# EAGLE library part DSPIC30F2010 (library microchip-dspic)
dsPIC Motion Controller DSC
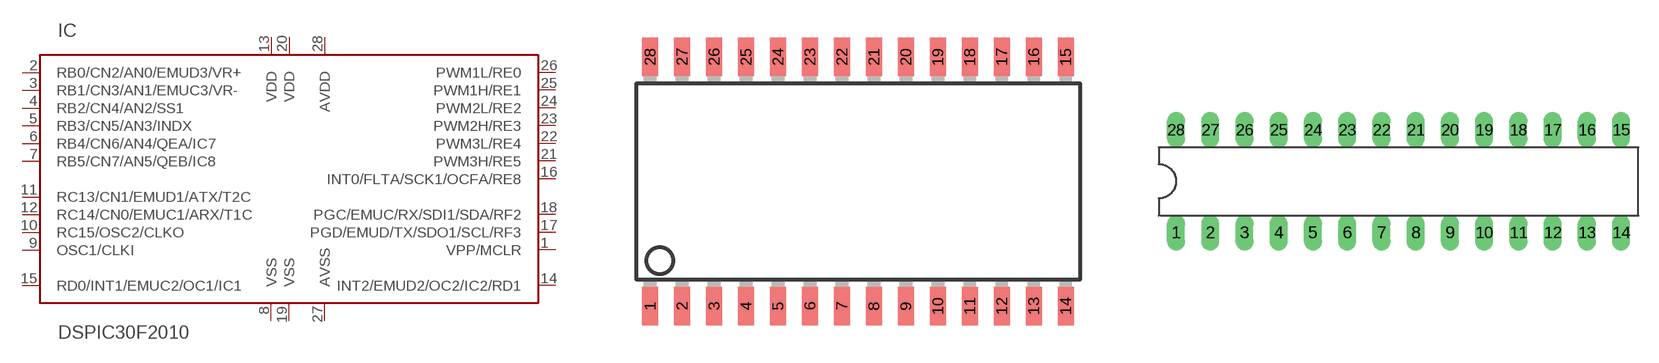
[diagram p2: symbol with the pads of SO-28W; footprints SO-28W, DIL28-3]

Designator prefix IC

## DSPIC30F2010/SOG  [SO-28W]
1  VPP/MCLR  in
2  RB0/CN2/AN0/EMUD3/VR+
3  RB1/CN3/AN1/EMUC3/VR-
4  RB2/CN4/AN2/SS1
5  RB3/CN5/AN3/INDX
6  RB4/CN6/AN4/QEA/IC7
7  RB5/CN7/AN5/QEB/IC8
8  VSS  pwr
9  OSC1/CLKI  in
10  RC15/OSC2/CLKO
11  RC13/CN1/EMUD1/ATX/T2C
12  RC14/CN0/EMUC1/ARX/T1C
13  VDD  pwr
14  INT2/EMUD2/OC2/IC2/RD1
15  RD0/INT1/EMUC2/OC1/IC1
16  INT0/FLTA/SCK1/OCFA/RE8
17  PGD/EMUD/TX/SDO1/SCL/RF3
18  PGC/EMUC/RX/SDI1/SDA/RF2
19  VSS  pwr
20  VDD  pwr
21  PWM3H/RE5
22  PWM3L/RE4
23  PWM2H/RE3
24  PWM2L/RE2
25  PWM1H/RE1
26  PWM1L/RE0
27  AVSS  pwr
28  AVDD  pwr

## DSPIC30F2010/SPG  [DIL28-3]
Pads as for SO-28W

## DSPIC30F2010/MMG  [QFN-S28-6X6]
1  RB2/CN4/AN2/SS1
2  RB3/CN5/AN3/INDX
3  RB4/CN6/AN4/QEA/IC7
4  RB5/CN7/AN5/QEB/IC8
5  VSS  pwr
6  OSC1/CLKI  in
7  RC15/OSC2/CLKO
8  RC13/CN1/EMUD1/ATX/T2C
9  RC14/CN0/EMUC1/ARX/T1C
10  VDD  pwr
11  INT2/EMUD2/OC2/IC2/RD1
12  RD0/INT1/EMUC2/OC1/IC1
13  INT0/FLTA/SCK1/OCFA/RE8
14  PGD/EMUD/TX/SDO1/SCL/RF3
15  PGC/EMUC/RX/SDI1/SDA/RF2
16  VSS  pwr
17  VDD  pwr
18  PWM3H/RE5
19  PWM3L/RE4
20  PWM2H/RE3
21  PWM2L/RE2
22  PWM1H/RE1
23  PWM1L/RE0
24  AVSS  pwr
25  AVDD  pwr
26  VPP/MCLR  in
27  RB0/CN2/AN0/EMUD3/VR+
28  RB1/CN3/AN1/EMUC3/VR-

## Footprint SO-28W (pad centres in mm)
Small Outline Wide Plastic Gull Wing 300-mil body, package type SO
smd 0.635 x 1.524: 1 -7.62,-4.953; 2 -6.35,-4.953; 3 -5.08,-4.953; 4 -3.81,-4.953; 5 -2.54,-4.953; 6 -1.27,-4.953; 7 0,-4.953; 8 1.27,-4.953; 9 2.54,-4.953; 10 3.81,-4.953; 11 5.08,-4.953; 12 6.35,-4.953; 13 7.62,-4.953; 14 8.89,-4.953; 15 8.89,4.953; 16 7.62,4.953; 17 6.35,4.953; 18 5.08,4.953; 19 3.81,4.953; 20 2.54,4.953; 21 1.27,4.953; 22 0,4.953; 23 -1.27,4.953; 24 -2.54,4.953; 25 -3.81,4.953; 26 -5.08,4.953; 27 -6.35,4.953; 28 -7.62,4.953

## Footprint DIL28-3 (pad centres in mm)
Dual In Line package type P
drill 0.813 long: 1 -16.51,-3.81; 2 -13.97,-3.81; 3 -11.43,-3.81; 4 -8.89,-3.81; 5 -6.35,-3.81; 6 -3.81,-3.81; 7 -1.27,-3.81; 8 1.27,-3.81; 9 3.81,-3.81; 10 6.35,-3.81; 11 8.89,-3.81; 12 11.43,-3.81; 13 13.97,-3.81; 14 16.51,-3.81; 15 16.51,3.81; 16 13.97,3.81; 17 11.43,3.81; 18 8.89,3.81; 19 6.35,3.81; 20 3.81,3.81; 21 1.27,3.81; 22 -1.27,3.81; 23 -3.81,3.81; 24 -6.35,3.81; 25 -8.89,3.81; 26 -11.43,3.81; 27 -13.97,3.81; 28 -16.51,3.81

## Footprint QFN-S28-6X6 (pad centres in mm)
Quad Flat No Lead
smd 0.6 x 0.4: 1 2.75,-1.95; 2 2.75,-1.3; 3 2.75,-0.65; 4 2.75,0; 5 2.75,0.65; 6 2.75,1.3; 7 2.75,1.95; 15 -2.75,1.95; 16 -2.75,1.3; 17 -2.75,0.65; 18 -2.75,0; 19 -2.75,-0.65; 20 -2.75,-1.3; 21 -2.75,-1.95
smd 0.4 x 0.6: 8 1.95,2.75; 9 1.3,2.75; 10 0.65,2.75; 11 0,2.75; 12 -0.65,2.75; 13 -1.3,2.75; 14 -1.95,2.75; 22 -1.95,-2.75; 23 -1.3,-2.75; 24 -0.65,-2.75; 25 0,-2.75; 26 0.65,-2.75; 27 1.3,-2.75; 28 1.95,-2.75